# EAGLE library part TDA8593J (library Audio-Power-amlifier V.2.0)
I2C-bus controlled 4 ´ 45 W power amplifier
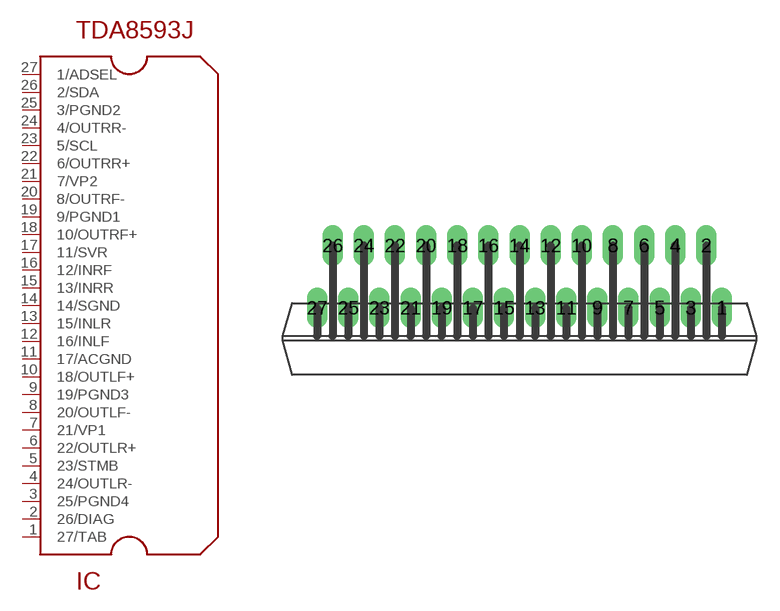
[diagram p41: symbol with the pads of SOT767-1; footprint SOT767-1]

Designator prefix IC

## TDA8593J  [SOT767-1]
1  27/TAB
2  26/DIAG
3  25/PGND4  pwr
4  24/OUTLR-  out
5  23/STMB
6  22/OUTLR+  out
7  21/VP1  pwr
8  20/OUTLF-  out
9  19/PGND3  pwr
10  18/OUTLF+  out
11  17/ACGND  pwr
12  16/INLF  in
13  15/INLR  in
14  14/SGND  pwr
15  13/INRR  in
16  12/INRF  in
17  11/SVR
18  10/OUTRF+  out
19  9/PGND1  pwr
20  8/OUTRF-  out
21  7/VP2  pwr
22  6/OUTRR+  out
23  5/SCL
24  4/OUTRR-  out
25  3/PGND2  pwr
26  2/SDA
27  1/ADSEL

## Footprint SOT767-1 (pad centres in mm)
drill 0.8 long: 1 13,0; 2 12,4; 3 11,0; 4 10,4; 5 9,0; 6 8,4; 7 7,0; 8 6,4; 9 5,0; 10 4,4; 11 3,0; 12 2,4; 13 1,0; 14 0,4; 15 -1,0; 16 -2,4; 17 -3,0; 18 -4,4; 19 -5,0; 20 -6,4; 21 -7,0; 22 -8,4; 23 -9,0; 24 -10,4; 25 -11,0; 26 -12,4; 27 -13,0